# Altium footprint library CAP_25V_2200uF.PcbLib: 1 footprints
Each footprint in its own frame and in the unit in brackets; x right, y up, seen from the top. Pads: shape width x height; smd on the part's side, far side on the other; paste and mask are expansions set on the pad; w line width, h text height; cw(c..) or ccw(c..) is an arc to the next point about the centre after c.
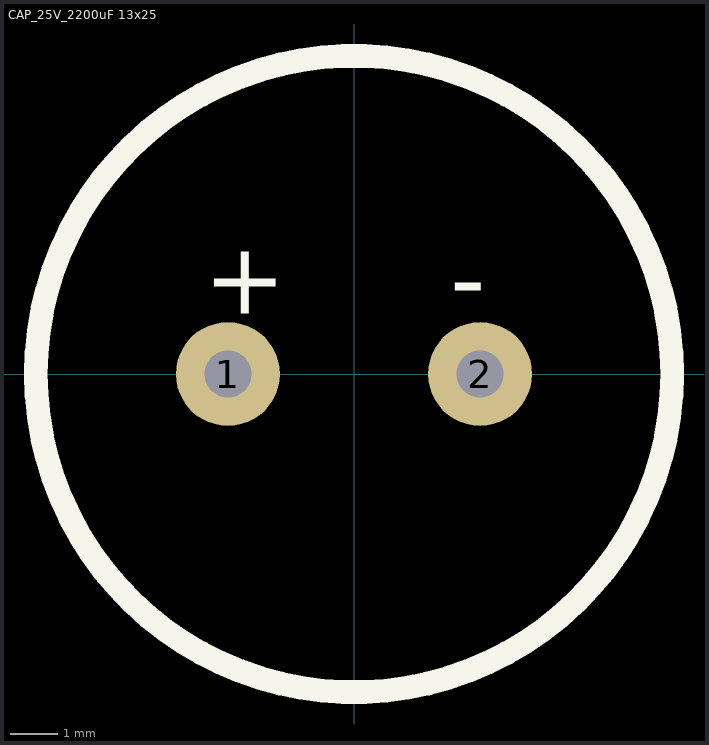
[diagram p0: the footprint, top view; thin cyan lines are the x and y axes]

## CAP_25V_2200uF 13x25 [mm]
pads (2):
  round 2.2 hole 1: 1(-2.667,0) 2(2.667,0)
Top Overlay:
  circle w0.5: c0,0 r6.732
  text "-" at 2.032,1.27 h1.52
  text "+" at -3.175,1.27 h1.52
3D body "HITANO 2200uF 25V PET105.STEP": height 20.17, standoff -4.03, extent -6.6,-6.596 6.61,6.61